# Altium footprint library SOP65P640X120-21N.PcbLib: 1 footprints
Each footprint in its own frame and in the unit in brackets; x right, y up, seen from the top. Pads: shape width x height; smd on the part's side, far side on the other; paste and mask are expansions set on the pad; w line width, h text height; cw(c..) or ccw(c..) is an arc to the next point about the centre after c.
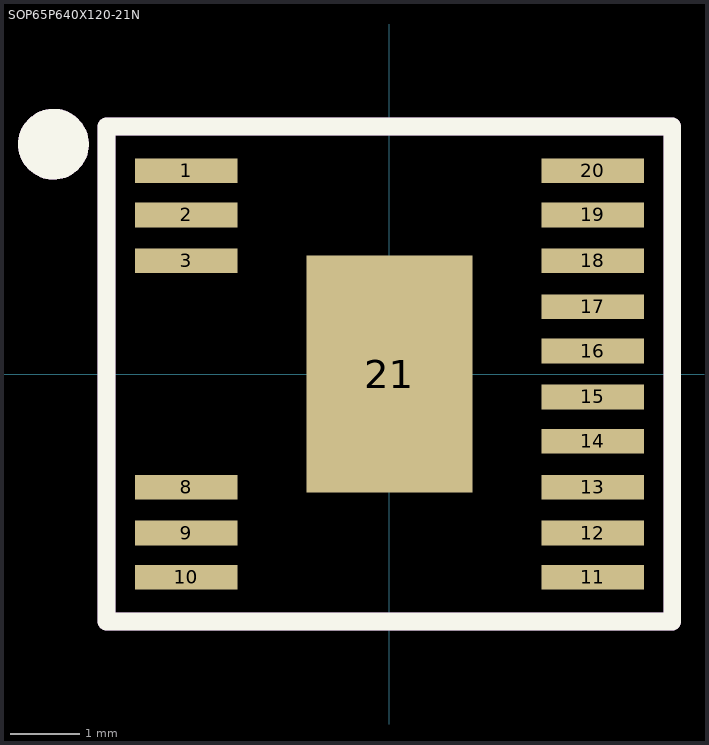
[diagram p0: the footprint, top view; thin cyan lines are the x and y axes]

## SOP65P640X120-21N [mil]
pads (17):
  rect 58x14 smd: 1(-115,115) 2(-115,90) 3(-115,64) 8(-115,-64) 9(-115,-90) 10(-115,-115) 11(115,-115) 12(115,-90) 13(115,-64) 14(115,-38) 15(115,-13) 16(115,13) 17(115,38) 18(115,64) 19(115,90) 20(115,115)
  rect 94x134 smd: 21(0,0)
Top Overlay:
  circle w20: c-190,130 r10
  lines w10: -160,-140 -160,140 160,140 160,-140 -160,-140
Mechanical 1:
  circle w20: c-190,130 r10
  lines w10: -160,-140 -160,140 160,140 160,-140 -160,-140
3D body "LT8316EFE#PBF.STEP": height 41.84, standoff -5.41, extent -125.98,-127.95 125.99,127.95